# EAGLE library part SPAN02A-12 (library SPAN02A-12)
Isolated DC/DC Converters 9-18Vin 12Vout 167mA SIP8 Reg Iso Source: Datasheet <https://datasheet.datasheetarchive.com/originals/distributors/DKDS-2/37032.pdf>
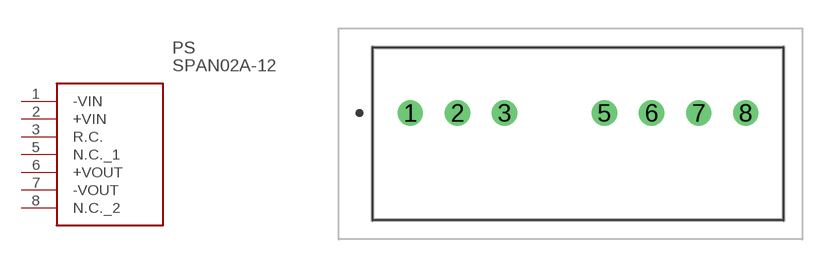
[diagram p0: symbol with the pads of SPAN02A12; footprint SPAN02A12]

Designator prefix PS

## SPAN02A-12 (Description: Isolated DC/DC Converters 9-18Vin 12Vout 167mA SIP8 Reg Iso; Height: 11.6mm; Manufacturer_Name: Mean Well; Manufacturer_Part_Number: SPAN02A-12; Mouser_Part_Number: 709-SPAN02A-12; Mouser_Price-Stock: https://www.mouser.co.uk/ProductDetail/MEAN-WELL/SPAN02A-12?qs=5aG0NVq1C4wxQqKsG84AkQ%3D%3D)  [SPAN02A12]
1  -VIN
2  +VIN
3  R.C.
5  N.C._1
6  +VOUT
7  -VOUT
8  N.C._2

## Footprint SPAN02A12 (pad centres in mm)
SPAN02A-12-2
drill 0.78 pad 1.337: 1 0,0; 2 2.5,0; 3 5,0; 5 10.3,0; 6 12.8,0; 7 15.3,0; 8 17.8,0